# Altium footprint library JEDEC_MO-178AB.PcbLib: 1 footprints
Each footprint in its own frame and in the unit in brackets; x right, y up, seen from the top. Pads: shape width x height; smd on the part's side, far side on the other; paste and mask are expansions set on the pad; w line width, h text height; cw(c..) or ccw(c..) is an arc to the next point about the centre after c.
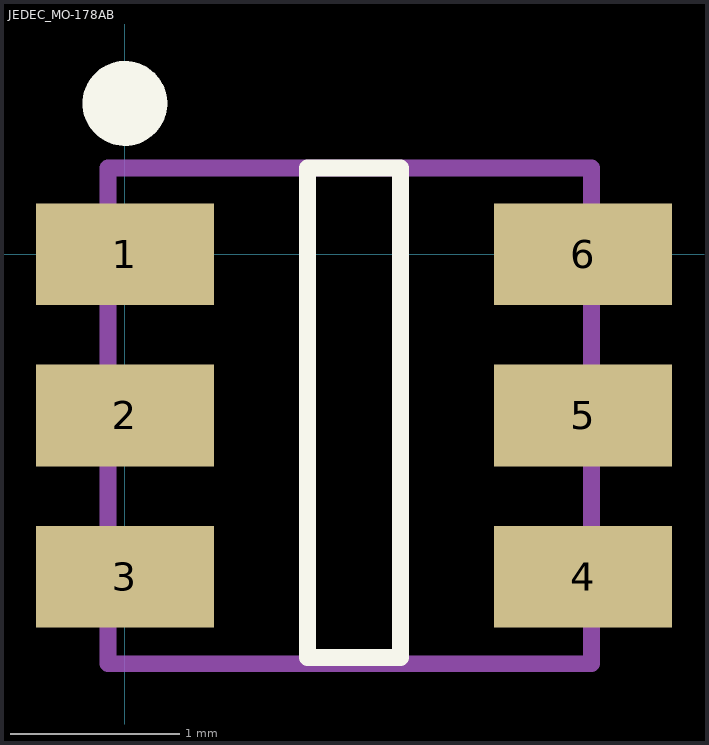
[diagram p0: the footprint, top view; thin cyan lines are the x and y axes]

## JEDEC_MO-178AB [mm]
pads (6):
  rect 1.05x0.6 smd: 1(0,0) 2(0,-0.95) 3(0,-1.9) 4(2.7,-1.9) 5(2.7,-0.95) 6(2.7,0)
Top Overlay:
  circle w0.25: c0,0.889 r0.125
  lines w0.1: 1.075,-2.375 1.075,0.508 1.625,0.508 1.625,-2.375 1.075,-2.375
Mechanical 1:
  lines w0.1: -0.1,-2.413 2.75,-2.413 2.75,0.508 -0.1,0.508 -0.1,-2.413
3D body: height 1.1, standoff -0.01, extent -0.1,-2.421 2.745,0.5